# Altium schematic symbol library W25Q256JVEIQ_TR.SchLib: 1 symbol
Pins are listed as number, name and electrical type; pins without a type are passive.

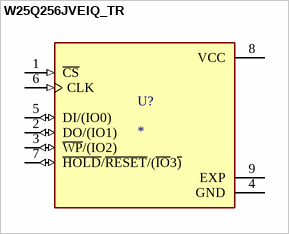
[diagram p0: symbol W25Q256JVEIQ_TR]

## W25Q256JVEIQ_TR
designator U?
FLASH - NOR Memory IC 256Mb (32M x 8) SPI - Quad I/O 133 MHz 8-WSON (8x6); MP: W25Q256JVEIQ TR; MF: Winbond; Price: None; Purchase-URL: https://pricing.snapeda.com/search/part/W25Q256JVEIQ TR/?ref=eda; Package: WSON-8 Winbond; Check_prices: https://www.snapeda.com/parts/W25Q256JVEIQ%20TR/Winbond+Electronics/view-part/?ref=eda; Value: *; Availability: In Stock; SnapEDA_Link: https://www.snapeda.com/parts/W25Q256JVEIQ%20TR/Winbond+Electronics/view-part/?ref=snap
footprint SON127P600X800X80-9N
pins: 1 ~{CS} (in), 2 DO/(IO1) (io), 3 ~{WP}/(IO2) (io), 4 GND (power), 5 DI/(IO0) (io), 6 CLK (in), 7 ~{HOLD}/~{RESET}/(~{IO}3~{)} (io), 8 VCC (power), 9 EXP